# EAGLE library part FEMEM15R2-12 (library rele)
RELAY
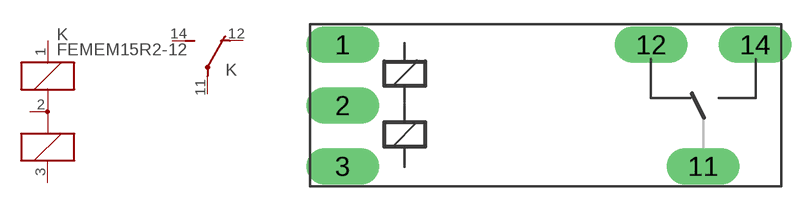
[diagram p19: symbol with the pads of FEMEM15R; footprint FEMEM15R]

Designator prefix K; gates G$1=K-2 G$2=U

## FEMEM15R2-12  [FEMEM15R]
1  G$1:1  pas
2  G$1:2  pas
3  G$1:3  pas
11  G$2:P  pas
12  G$2:O  pas
14  G$2:S  pas

## Footprint FEMEM15R (pad centres in mm)
RELAY
drill 1.5 long: 1 -12.5,3.75; 2 -12.5,0; 3 -12.5,-3.75; 11 9.7,-3.75; 12 6.5,3.75; 14 12.9,3.75